# Altium schematic symbol library MGNGSQ4_Dongles.SchLib: 12 symbols
Pins are listed as number, name and electrical type; pins without a type are passive.

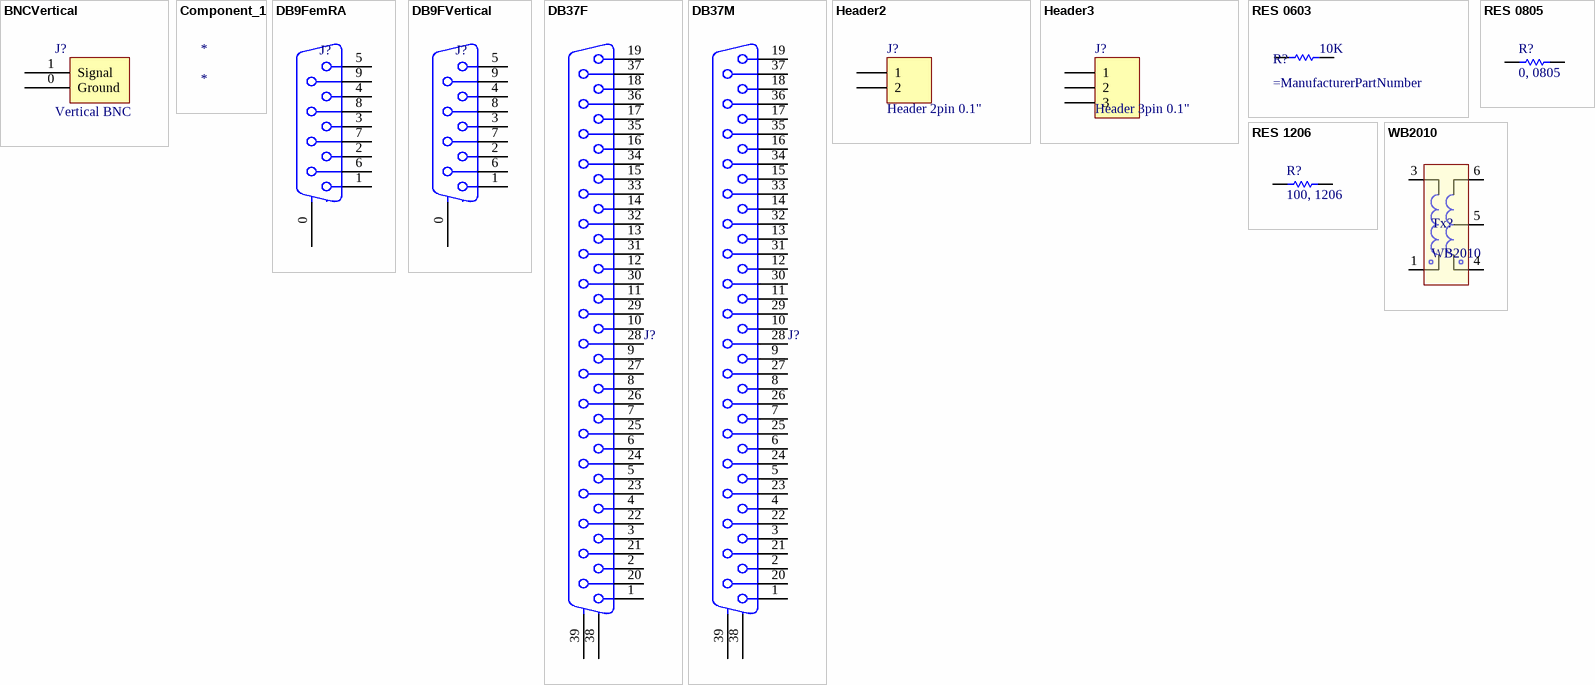
[diagram p0: symbols BNCVertical to WB2010]

## BNCVertical
designator J?, comment Vertical BNC
footprint BNCVert
pins: 0 Ground, 1 Signal
1 alternate drawing of the same symbol

## Component_1
designator *

## DB9FemRA
designator J?, comment DSUB9 Female R/A  (value not drawn)
DB9F R/A; Manufacturer: TE Connectivity AMP Connectors; Manufacturers Part Number: 1734354-1; Assembly Comments: none; Type: Connector; Cost: $2.06; Supplier Part Number: A35107-ND; Supplier: Digikey
footprint DSUB9FRA (DSUB 9Pin Female Right Angle)
pins: 0, 1, 2, 3, 4, 5, 6, 7, 8, 9
3 alternate drawings of the same symbol

## DB9FVertical
designator J?, comment DSUB9 Female Vertical  (value not drawn)
DB9F Vertical; Manufacturer: TE Connectivity AMP Connectors; Manufacturers Part Number: 3-1634222-2; Assembly Comments: none; Type: Connector; Cost: $3.51; Supplier Part Number: A115163-ND; Supplier: Digikey
footprint DSUB9FVert (DSUB 9Pin Female Vertical)
pins: 0, 1, 2, 3, 4, 5, 6, 7, 8, 9
3 alternate drawings of the same symbol

## DB37F
designator J?
DB37F; Assembly Comments: none; Manufacturers Part Number: DB37F; Type: Connector; SupplierUnitCost: $3.35
footprint DSUB37-F (DSUB 37Pin Male)
pins: 1, 2, 3, 4, 5, 6, 7, 8, 9, 10, 11, 12, 13, 14, 15, 16, 17, 18, 19, 20, 21, 22, 23, 24, 25, 26, 27, 28, 29, 30, 31, 32, 33, 34, 35, 36, 37, 38 MH1, 39 MH2
3 alternate drawings of the same symbol

## DB37M
designator J?
DB37M; Assembly Comments: none; Manufacturers Part Number: DB37M; Type: Connector; SupplierUnitCost: $3.35
footprint DSUB37-M (DSUB 37Pin Male)
pins: 1, 2, 3, 4, 5, 6, 7, 8, 9, 10, 11, 12, 13, 14, 15, 16, 17, 18, 19, 20, 21, 22, 23, 24, 25, 26, 27, 28, 29, 30, 31, 32, 33, 34, 35, 36, 37, 38 MH1, 39 MH2
3 alternate drawings of the same symbol

## Header2
designator J?, comment Header 2pin 0.1"
Header, 0.1", 2-Pin straight (Any equivalent - may need to be value added); Manufacturer: Digikey; Manufacturers P/N: A26508-02-ND; Footprint: *
footprint HDR1X2
pins: 1, 2

## Header3
designator J?, comment Header 3pin 0.1"
Header, 0.1", 3-Pin straight; Manufacturer: Digikey; Footprint: *
footprint HDR1X3
pins: 1, 2, 3

## RES 0603
designator R?  value 10K
Resistor; ManufacturerPartNumber: 10K 1/10W 1% 100ppm/C 0603; Manufacturer: Generic; ManufacturerPartNumber 1: e.g CRCW0603 series; Tolerance: 1%; Power: 1/10W; TempCoef: 100ppm/C; Footprint: 0603; Supplier 1: Arrow; Supplier 2: Digi-Key; Supplier Part Number 1: 4070372S9500174N6892; Supplier Part Number 2: 541-0.0GDKR-ND
footprint 0603
pins: 1 1 , 2

## RES 0805
designator R?, comment 0, 0805
RES 0.0 OHM 1/8W 0805 SMD; Manufacturers P/N: e.g CRCW08050000Z0EAHP; Manufacturer: e.g Vishay/Dale; Part constraints: 0Ohm jumper, >=4A, 0805, <=5mOhms; Param1: 200ppm/C; Value: DNL; CanPurchaseFrom: Newark; Param: 1%
simulation model RESISTOR (Resistor)
signal-integrity model Res
footprint 0805
pins: 1, 2

## RES 1206
designator R?, comment 100, 1206
RES 100 OHM 1/4W 1206 SMD; Manufacturers Part Number: ESR18EZPF1000; Manufacturer: Rohm Semiconductor; Part constraints: 100 Ohm, 1206, 100ppm, 1%, 1/3W; Value: 100; Supplier 1: Digi-Key; Supplier Part Number 1: RHM100AFCT-ND
simulation model RESISTOR (Resistor)
signal-integrity model Res
footprint 1206
pins: 1, 2

## WB2010
designator Tx?
WB2010 1:1 Transformer
footprint WB2010 (Transformer 1:1)
pins: 1, 3, 4, 5, 6